# Altium footprint library 48_pads.PcbLib: 1 footprints
Each footprint in its own frame and in the unit in brackets; x right, y up, seen from the top. Pads: shape width x height; smd on the part's side, far side on the other; paste and mask are expansions set on the pad; w line width, h text height; cw(c..) or ccw(c..) is an arc to the next point about the centre after c.
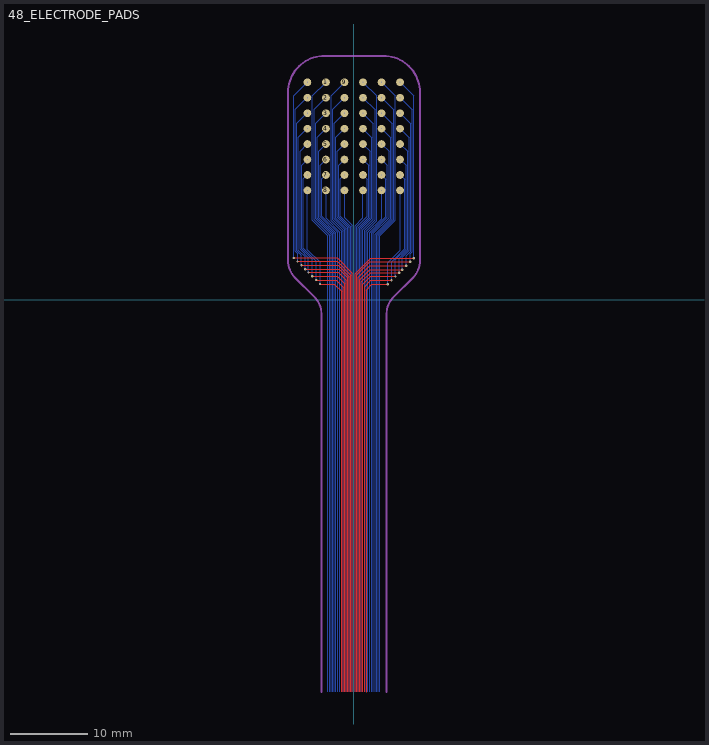
[diagram p0: the footprint, top view; thin cyan lines are the x and y axes]

## 48_ELECTRODE_PADS [mm]
pads (48):
  round 1 smd: 1(-3.589,28.131) 2(-3.589,26.131) 3(-3.589,24.131) 4(-3.589,22.131) 5(-3.589,20.131) 6(-3.589,18.131) 7(-3.589,16.131) 8(-3.589,14.131) 9(-1.189,28.131) 10(-1.189,26.131) 11(-1.189,24.131) 12(-1.189,22.131) 13(-1.189,20.131) 14(-1.189,18.131) 15(-1.189,16.131) 16(-1.189,14.131) 17(3.611,28.131) 18(3.611,26.131) 19(3.611,24.131) 20(3.611,22.131) 21(3.611,20.131) 22(3.611,18.131) 23(3.611,16.131) 24(3.611,14.131) 25(1.211,28.131) 26(1.211,26.131) 27(1.211,24.131) 28(1.211,22.131) 29(1.211,20.131) 30(1.211,18.131) 31(1.211,16.131) 32(1.211,14.131) 33(-5.989,14.131) 34(-5.989,16.131) 35(-5.989,18.131) 36(-5.989,20.131) 37(-5.989,22.131) 38(-5.989,24.131) 39(-5.989,26.131) 40(-5.989,28.131) 41(6.011,28.131) 42(6.011,26.131) 43(6.011,24.131) 44(6.011,22.131) 45(6.011,20.131) 46(6.011,18.131) 47(6.011,16.131) 48(6.011,14.131)
via -5.989,16.131 diameter 0.35 hole 0.15
via -5.989,14.131 diameter 0.35 hole 0.15
via -5.989,20.131 diameter 0.35 hole 0.15
via -5.989,18.131 diameter 0.35 hole 0.15
via -5.989,22.131 diameter 0.35 hole 0.15
via -5.989,24.131 diameter 0.35 hole 0.15
via -5.989,26.131 diameter 0.35 hole 0.15
via -5.989,28.131 diameter 0.35 hole 0.15
via 6.011,14.131 diameter 0.35 hole 0.15
via -3.589,14.131 diameter 0.35 hole 0.15
via -1.189,14.131 diameter 0.35 hole 0.15
via 3.611,14.131 diameter 0.35 hole 0.15
via 1.211,14.131 diameter 0.35 hole 0.15
via -3.589,18.131 diameter 0.35 hole 0.15
via 3.611,16.131 diameter 0.35 hole 0.15
via 1.211,16.131 diameter 0.35 hole 0.15
via -1.189,16.131 diameter 0.35 hole 0.15
via -3.589,16.131 diameter 0.35 hole 0.15
via 3.611,18.131 diameter 0.35 hole 0.15
via 1.211,18.131 diameter 0.35 hole 0.15
via -1.189,18.131 diameter 0.35 hole 0.15
via 6.011,18.131 diameter 0.35 hole 0.15
via 6.011,16.131 diameter 0.35 hole 0.15
via -3.589,24.131 diameter 0.35 hole 0.15
via 3.611,22.131 diameter 0.35 hole 0.15
via 1.211,22.131 diameter 0.35 hole 0.15
via -1.189,22.131 diameter 0.35 hole 0.15
via 3.611,20.131 diameter 0.35 hole 0.15
via 1.211,20.131 diameter 0.35 hole 0.15
via -1.189,20.131 diameter 0.35 hole 0.15
via -3.589,22.131 diameter 0.35 hole 0.15
via -3.589,20.131 diameter 0.35 hole 0.15
via 3.611,24.131 diameter 0.35 hole 0.15
via 1.211,24.131 diameter 0.35 hole 0.15
via -1.189,24.131 diameter 0.35 hole 0.15
via 6.011,24.131 diameter 0.35 hole 0.15
via 6.011,22.131 diameter 0.35 hole 0.15
via 6.011,20.131 diameter 0.35 hole 0.15
via -3.589,28.131 diameter 0.35 hole 0.15
via 3.611,26.131 diameter 0.35 hole 0.15
via 1.211,26.131 diameter 0.35 hole 0.15
via -1.189,26.131 diameter 0.35 hole 0.15
via -3.589,26.131 diameter 0.35 hole 0.15
via 3.611,28.131 diameter 0.35 hole 0.15
via 1.211,28.131 diameter 0.35 hole 0.15
via -1.189,28.131 diameter 0.35 hole 0.15
via 6.011,28.131 diameter 0.35 hole 0.15
via 6.011,26.131 diameter 0.35 hole 0.15
via 7.8,5.346 diameter 0.3 hole 0.15
via 7.32,4.891 diameter 0.3 hole 0.15
via 6.812,4.383 diameter 0.3 hole 0.15
via 6.304,3.875 diameter 0.3 hole 0.15
via 5.896,3.468 diameter 0.3 hole 0.15
via 5.415,2.986 diameter 0.3 hole 0.15
via 4.907,2.478 diameter 0.3 hole 0.15
via 4.399,1.97 diameter 0.3 hole 0.15
via -4.35,2.009 diameter 0.3 hole 0.15
via -4.858,2.517 diameter 0.3 hole 0.15
via -5.366,3.025 diameter 0.3 hole 0.15
via -5.847,3.506 diameter 0.3 hole 0.15
via -6.255,3.914 diameter 0.3 hole 0.15
via -6.763,4.422 diameter 0.3 hole 0.15
via -7.271,4.93 diameter 0.3 hole 0.15
via -7.751,5.385 diameter 0.3 hole 0.15
Top Layer:
  lines w0.1: -7.751,5.385 -2.138,5.385 -0.159,3.406 -0.159,-50.809 ; -7.271,4.93 -2.136,4.93 -0.359,3.153 -0.359,-50.809 ; -6.763,4.422 -2.009,4.422 -0.559,2.972 -0.559,-50.809 ; -6.255,3.914 -1.882,3.914 -0.761,2.793 -0.761,-50.809 ; -5.847,3.506 -1.982,3.506 -0.961,2.485 -0.961,-50.809 ; -5.366,3.025 -2.136,3.025 -1.161,2.05 -1.161,-50.809 ; -4.858,2.517 -2.263,2.517 -1.361,1.615 -1.361,-50.809 ; -4.35,2.009 -2.517,2.009 -1.561,1.053 -1.561,-50.809 ; 0.208,-50.809 0.208,3.367 2.187,5.346 7.8,5.346 ; 0.408,-50.809 0.408,3.202 2.097,4.891 7.32,4.891 ; 0.608,-50.809 0.608,2.894 2.097,4.383 6.812,4.383 ; 0.81,-50.809 0.81,2.588 2.097,3.875 6.304,3.875 ; 1.01,-50.809 1.01,2.28 2.198,3.468 5.896,3.468 ; 1.21,-50.809 1.21,1.972 2.224,2.986 5.415,2.986 ; 1.41,-50.814 1.41,1.664 2.224,2.478 4.907,2.478 ; 1.606,-50.854 1.606,1.225 2.351,1.97 4.399,1.97
Bottom Layer:
  lines w0.1: -7.751,5.385 -7.744,5.392 -7.744,26.414 -5.988,28.17 ; -7.271,4.93 -7.271,5.958 -7.544,6.231 -7.544,24.614 -5.988,26.17 ; -6.763,4.422 -6.763,5.732 -7.344,6.313 -7.344,22.814 -5.988,24.17 ; -6.255,3.914 -6.255,5.507 -7.144,6.396 -7.144,21.014 -5.988,22.17 ; -5.988,14.17 -5.988,6.441 -4.35,4.803 -4.35,2.009 ; -5.988,16.17 -6.544,15.614 -6.544,6.645 -4.858,4.959 -4.858,2.517 ; -5.988,18.17 -6.744,17.414 -6.744,6.562 -5.366,5.184 -5.366,3.025 ; -5.988,20.17 -6.944,19.214 -6.944,6.479 -5.847,5.383 -5.847,3.506 ; -3.575,14.17 -3.575,10.505 -1.81,8.74 -1.81,-50.809 ; -3.575,16.17 -4.131,15.614 -4.131,10.772 -2.064,8.705 -2.064,-50.809 ; -3.575,18.17 -4.331,17.414 -4.331,10.689 -2.318,8.676 -2.318,-50.809 ; -3.575,20.17 -4.531,19.214 -4.531,10.606 -2.518,8.593 -2.518,-50.809 ; -3.575,22.17 -4.731,21.014 -4.731,10.523 -2.718,8.51 -2.718,-50.809 ; -3.575,24.17 -4.931,22.814 -4.931,10.441 -2.918,8.428 -2.918,-50.809 ; -3.575,26.17 -5.131,24.614 -5.131,10.358 -3.118,8.345 -3.118,-50.809 ; -3.575,28.17 -5.331,26.414 -5.331,10.275 -3.334,8.278 -3.334,-50.809 ; -1.561,-50.809 -1.561,8.873 -2.918,10.229 -2.918,26.414 -1.162,28.17 ; -1.359,-50.809 -1.359,8.978 -2.718,10.337 -2.718,24.614 -1.162,26.17 ; -1.162,14.17 -1.162,10.606 -0.159,9.603 -0.159,-50.809 ; -1.162,16.17 -1.718,15.614 -1.718,10.795 -0.359,9.436 -0.359,-50.809 ; -1.162,18.17 -1.918,17.414 -1.918,10.712 -0.559,9.353 -0.559,-50.809 ; -1.162,20.17 -2.118,19.214 -2.118,10.63 -0.759,9.271 -0.759,-50.809 ; -1.162,22.17 -2.318,21.014 -2.318,10.547 -0.959,9.188 -0.959,-50.809 ; -1.162,24.17 -2.518,22.814 -2.518,10.464 -1.159,9.105 -1.159,-50.809 ; 0.208,-50.809 0.208,9.564 1.211,10.567 1.211,14.131 ; 0.408,-50.809 0.408,9.398 1.767,10.757 1.767,15.575 1.211,16.131 ; 0.608,-50.809 0.608,9.315 1.967,10.674 1.967,17.375 1.211,18.131 ; 0.808,-50.809 0.808,9.232 2.167,10.591 2.167,19.175 1.211,20.131 ; 1.008,-50.809 1.008,9.149 2.367,10.508 2.367,20.975 1.211,22.131 ; 1.208,-50.809 1.208,9.066 2.567,10.425 2.567,22.775 1.211,24.131 ; 1.211,26.131 2.767,24.575 2.767,10.298 1.408,8.939 1.408,-50.809 ; 1.211,28.131 2.967,26.375 2.967,10.19 1.61,8.834 1.61,-50.809 ; 1.859,-50.809 1.859,8.701 3.624,10.466 3.624,14.131 ; 2.113,-50.809 2.113,8.666 4.18,10.733 4.18,15.575 3.624,16.131 ; 2.367,-50.809 2.367,8.637 4.38,10.65 4.38,17.375 3.624,18.131 ; 2.567,-50.809 2.567,8.555 4.58,10.568 4.58,19.175 3.624,20.131 ; 2.767,-50.809 2.767,8.472 4.78,10.485 4.78,20.975 3.624,22.131 ; 2.967,-50.809 2.967,8.389 4.98,10.402 4.98,22.775 3.624,24.131 ; 3.167,-50.809 3.167,8.306 5.18,10.319 5.18,24.575 3.624,26.131 ; 3.383,-50.809 3.383,8.239 5.38,10.236 5.38,26.375 3.624,28.131 ; 4.399,1.97 4.399,4.764 6.037,6.402 6.037,14.131 ; 4.907,2.478 4.907,4.92 6.593,6.606 6.593,15.575 6.037,16.131 ; 5.415,2.986 5.415,5.145 6.793,6.523 6.793,17.375 6.037,18.131 ; 5.896,3.468 5.896,5.344 6.993,6.44 6.993,19.175 6.037,20.131 ; 6.037,22.131 7.193,20.975 7.193,6.358 6.304,5.469 6.304,3.875 ; 6.037,24.131 7.393,22.775 7.393,6.275 6.812,5.694 6.812,4.383 ; 6.037,26.131 7.593,24.575 7.593,6.192 7.32,5.919 7.32,4.891 ; 6.037,28.131 7.793,26.375 7.793,5.353 7.8,5.346
Mechanical 1:
  lines w0.254: -4.179,-50.809 -4.179,-1.84 ccw(c-7.245,-1.84) -5.077,0.328 -7.599,2.85 cw(c-5.431,5.018) -8.497,5.018 -8.497,26.825 cw(c-3.76,26.825) -3.76,31.561 0.012,31.561 ; 0.081,31.561 3.853,31.561 cw(c3.853,26.825) 8.59,26.825 8.59,5.018 cw(c5.524,5.018) 7.692,2.85 5.17,0.328 ccw(c7.338,-1.84) 4.272,-1.84 4.272,-50.809 ; 7.775,5.346 7.8,5.346 7.775,5.346